# EAGLE library part FINDER_S30.22.7_RELAIS (library 1A-meinLib)
Schwachstromrelais in Dual-In-Line Bauform, Finder Serie S30, Spule:200mW, 250V/3A
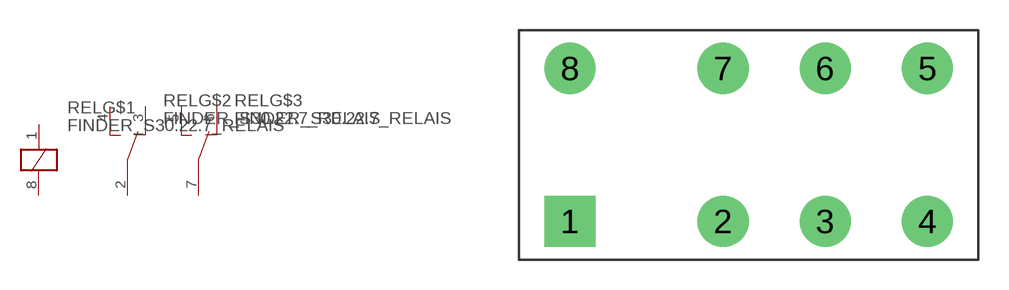
[diagram p143: symbol with the pads of FINDER_S30; footprint FINDER_S30]

Designator prefix REL; gates G$1=RELAIS-SPULE G$2=RELAIS-UMSCHALTER G$3=RELAIS-UMSCHALTER

## FINDER_S30.22.7_RELAIS  [FINDER_S30]
1  G$1:A1  pas
2  G$2:COM
3  G$2:NC
4  G$2:NO
5  G$3:NO
6  G$3:NC
7  G$3:COM
8  G$1:A2  pas

## Footprint FINDER_S30 (pad centres in mm)
drill 1.2 pad 2.54 square: 1 0,-7.62
drill 1.2 pad 2.54 round: 2 7.62,-7.62; 3 12.7,-7.62; 4 17.78,-7.62; 5 17.78,0; 6 12.7,0; 7 7.62,0; 8 0,0